# EAGLE library part OPA2355 (library IC)
Texas Intruments OPA2355 Dual 200MHz, CMOS Operational Amplifiers with shutdown
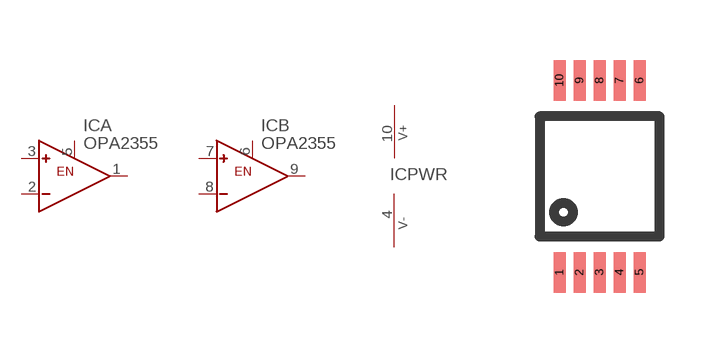
[diagram p126: symbol with the pads of MSOP-10; footprint MSOP-10]

Designator prefix IC; gates A=OPAMP-EN B=OPAMP-EN PWR=PWR_V+_V-

## OPA2355  [MSOP-10]
1  A:OUT  out
2  A:IN-  in
3  A:IN+  in
4  PWR:V-  pwr
5  A:EN  in
6  B:EN  in
7  B:IN+  in
8  B:IN-  in
9  B:OUT  out
10  PWR:V+  pwr

## Footprint MSOP-10 (pad centres in mm)
MSOP-10, National Semiconductor package number MUB10A
smd 0.3 x 1.02: 1 -1,-2.4; 2 -0.5,-2.4; 3 0,-2.4; 4 0.5,-2.4; 5 1,-2.4; 6 1,2.4; 7 0.5,2.4; 8 0,2.4; 9 -0.5,2.4; 10 -1,2.4